# EAGLE library part SN74AVC4T245DR (library eric_personal_parts)
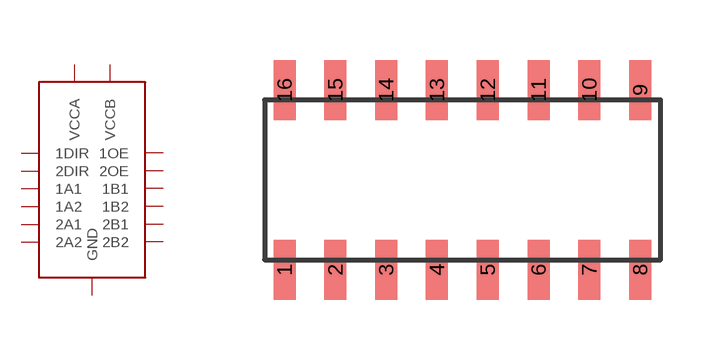
[diagram p5: symbol with the pads of 16-SOIC; footprint 16-SOIC]

Designator prefix -

## SN74AVC4T245DR  [16-SOIC]
1  VCCA
2  1DIR
3  2DIR
4  1A1
5  1A2
6  2A1
7  2A2
8  GND
9  GND
10  2B2
11  2B1
12  1B2
13  1B1
14  2OE
15  1OE
16  VCCB

## Footprint 16-SOIC (pad centres in mm)
smd 0.55 x 1.5: 1 0.5,0.75; 2 1.77,0.75; 3 3.04,0.75; 4 4.31,0.75; 5 5.58,0.75; 6 6.85,0.75; 7 8.12,0.75; 8 9.39,0.75; 9 9.39,5.25; 10 8.12,5.25; 11 6.85,5.25; 12 5.58,5.25; 13 4.31,5.25; 14 3.04,5.25; 15 1.77,5.25; 16 0.5,5.25